# EAGLE library part MCP2515-QFN (library custom)
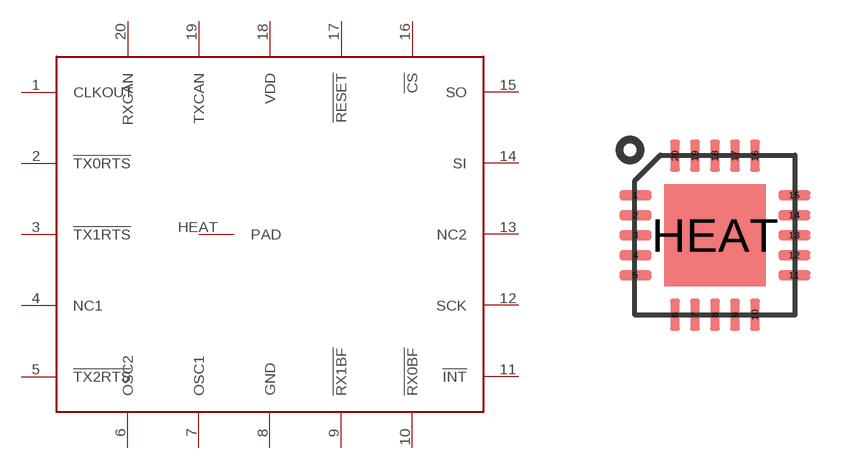
[diagram p4: symbol with the pads of QFN20; footprint QFN20]

Designator prefix U

## MCP2515-QFN  [QFN20]
1  CLKOUT
2  !TX0RTS
3  !TX1RTS
4  NC1
5  !TX2RTS
6  OSC2
7  OSC1
8  GND
9  !RX1BF
10  !RX0BF
11  !INT
12  SCK
13  NC2
14  SI
15  SO
16  !CS
17  !RESET
18  VDD
19  TXCAN
20  RXCAN
HEAT  PAD

## Footprint QFN20 (pad centres in mm)
smd 0.8 x 0.241: 1 -1.986,1.05; 2 -1.986,0.55; 3 -1.986,0.05; 4 -1.986,-0.45; 5 -1.986,-0.95; 11 1.986,-0.95; 12 1.986,-0.45; 13 1.986,0.05; 14 1.986,0.55; 15 1.986,1.05
smd 0.241 x 0.8: 6 -1,-1.937; 7 -0.5,-1.937; 8 0,-1.937; 9 0.5,-1.937; 10 1,-1.937; 16 1,2.037; 17 0.5,2.037; 18 0,2.037; 19 -0.5,2.037; 20 -1,2.037
smd 2.54 x 2.54: HEAT 0,0.05